# EAGLE library part EFM8SB1 (library custom-parts)
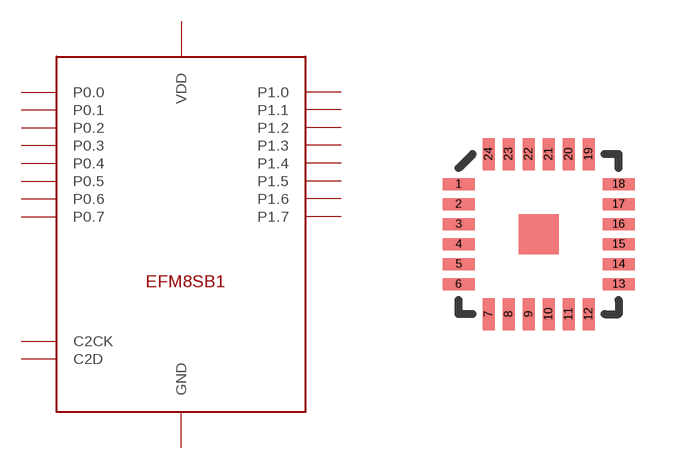
[diagram p1: symbol with the pads of EFM8SB1; footprint EFM8SB1]

Designator prefix -

## EFM8SB1  [EFM8SB1]
2  GND
3  VDD
6  C2CK
7  C2D
8  P1.7
9  P1.6
11  P1.5
12  P1.4
13  P1.3
14  P1.2
15  P1.1
16  P1.0
17  P0.7
18  P0.6
19  P0.5
20  P0.4
21  P0.3
22  P0.2
23  P0.1
24  P0.0

## Footprint EFM8SB1 (pad centres in mm)
smd 0.8 x 0.3: 1 -2,1.25; 2 -2,0.75; 3 -2,0.25; 4 -2,-0.25; 5 -2,-0.75; 6 -2,-1.25; 13 2,-1.25; 14 2,-0.75; 15 2,-0.25; 16 2,0.25; 17 2,0.75; 18 2,1.25
smd 0.3 x 0.8: 7 -1.25,-2; 8 -0.75,-2; 9 -0.25,-2; 10 0.25,-2; 11 0.75,-2; 12 1.25,-2; 19 1.25,2; 20 0.75,2; 21 0.25,2; 22 -0.25,2; 23 -0.75,2; 24 -1.25,2